# Altium schematic symbol library WS2812B.SchLib: 1 symbol
Pins are listed as number, name and electrical type; pins without a type are passive.

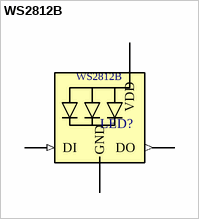
[diagram p0: symbol WS2812B]

## WS2812B
designator LED?  (value not drawn)
Intelligent Control Led Integrated Light Source Pack Of 10; MF: Worldsemi; MP: WS2812B; Digi-Key_Part_Number: 1597-1565-ND; SnapEDA_Link: https://www.snapeda.com/parts/WS2812B/Seeed%20Technology%20Co.%2C%20Ltd/view-part/?ref=snap; Package: None; Digi-Key_Purchase_URL: https://www.digikey.ca/product-detail/en/seeed-technology-co-ltd/110060865/1597-1565-ND/7650479?utm_source=snapeda&utm_medium=aggregator&utm_campaign=symbol; Value: *
footprint *WS2812B_WS2812B(Primary)
pins: 1-VDD VDD (power), 2-DOUT DO (out), 3-GND GND (power), 4-DIN DI (in)